# Altium footprint library 3-1445054-2.PcbLib: 1 footprints
Each footprint in its own frame and in the unit in brackets; x right, y up, seen from the top. Pads: shape width x height; smd on the part's side, far side on the other; paste and mask are expansions set on the pad; w line width, h text height; cw(c..) or ccw(c..) is an arc to the next point about the centre after c.
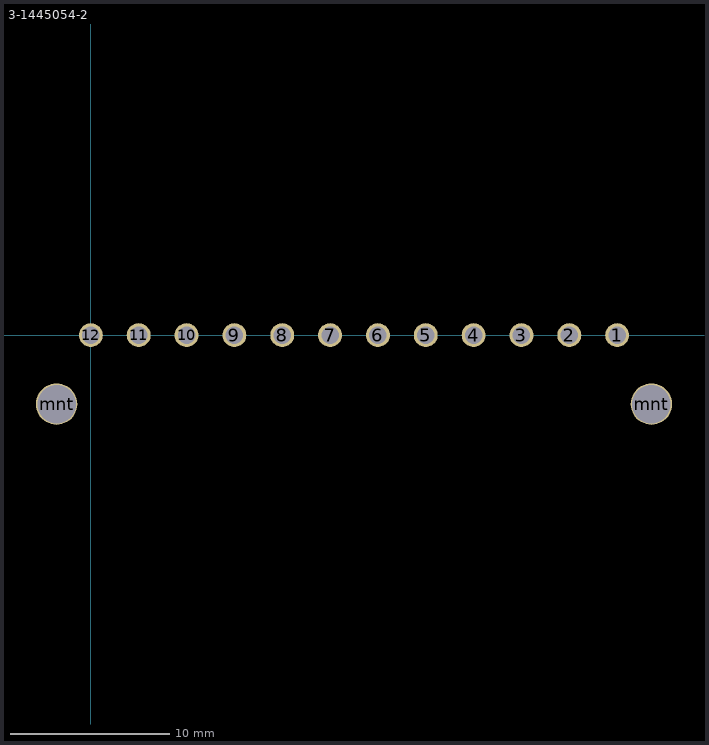
[diagram p0: the footprint, top view; thin cyan lines are the x and y axes]

## 3-1445054-2 [mm] "12 pin amp matenlok"
pads (14):
  round 1.5 hole 1.1: 1(33,0) 2(30,0) 3(27,0) 4(24,0) 5(21,0) 6(18,0) 7(15,0) 8(12,0) 9(9,0) 10(6,0) 11(3,0) 12(0,0)
  round 2.6 hole 2.41: mnt(-2.15,-4.32) mnt(35.15,-4.32)